# Altium integrated library WE-PFC PFC Choke.IntLib: 21 symbols
Pins are listed as number, name and electrical type; pins without a type are passive.

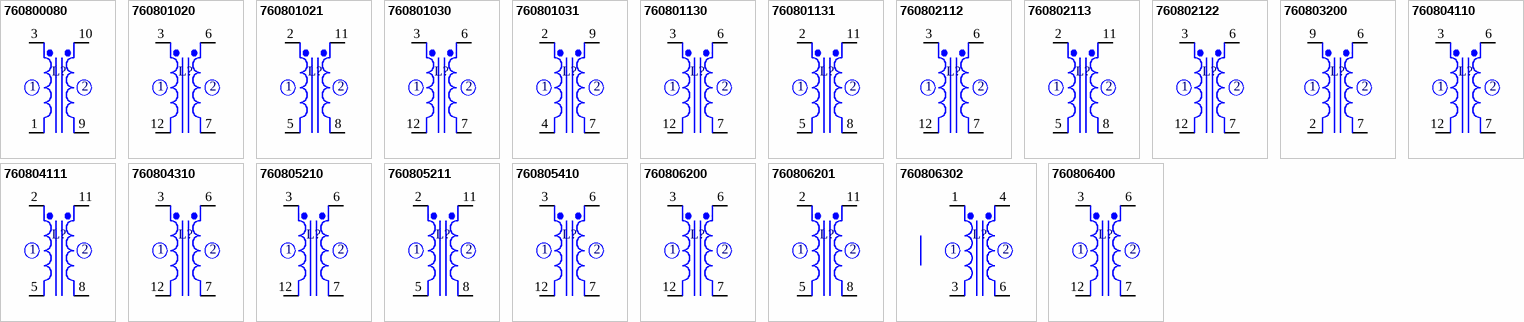
[diagram p0: symbols 760800080 to 760806400]

## 760800080
designator L?
THT Power Inductor WE-PFC , L=1800 µH; PartNumber: 760800080; Inductance: 1800 µH; PackageReference: EE20/10/6; ComponentLink1Description: Manufacturer URL; ComponentLink1URL: http://www.we-online.com; ComponentLink2Description: Datasheet; ComponentLink2URL: http://www.we-online.de/katalog/media/pdf/760800080.pdf
footprint EE20/10/6 (TH, 14-Leads, Body 25.0x22.20mm (max), Pitch 2.49mm)
pins: 1 Pri-, 3 Pri+, 9 Sec-, 10 Sec+
text: 2

## 760801020
designator L?
THT Power Inductor WE-PFC , L=500 µH; PartNumber: 760801020; Inductance: 500 µH; PackageReference: RM10; ComponentLink1Description: Manufacturer URL; ComponentLink1URL: http://www.we-online.com; ComponentLink2Description: Datasheet; ComponentLink2URL: http://www.we-online.de/katalog/media/pdf/760802112.pdf
footprint RM10 (THT-12pin- Body 31x29mm ,3.59mm pitch)
pins: 3 Pri+, 6 Sec+, 7 Sec-, 12 Pri-
text: 1; 2

## 760801021
designator L?
THT Power Inductor WE-PFC , L=500 µH; PartNumber: 760801021; Inductance: 500 µH; PackageReference: EFD30; ComponentLink1Description: Manufacturer URL; ComponentLink1URL: http://www.we-online.com; ComponentLink2Description: Datasheet; ComponentLink2URL: http://www.we-online.de/katalog/media/pdf/760801021.pdf
footprint EFD30 (THT-12pin- Body 31x30mm ,5mm pitch)
pins: 2 Pri+, 5 Pri-, 8 Sec-, 11 Sec+
text: 1

## 760801030
designator L?
THT Power Inductor WE-PFC , L=650 µH; PartNumber: 760801030; Inductance: 650 µH; PackageReference: RM10; ComponentLink1Description: Manufacturer URL; ComponentLink1URL: http://www.we-online.com; ComponentLink2Description: Datasheet; ComponentLink2URL: http://www.we-online.de/katalog/media/pdf/760801030.pdf
footprint RM10 (THT-12pin- Body 31x29mm ,3.59mm pitch)
pins: 3 Pri+, 6 Sec+, 7 Sec-, 12 Pri-
text: 1; 2

## 760801031
designator L?
THT Power Inductor WE-PFC , L=650 µH; PartNumber: 760801031; Inductance: 650 µH; PackageReference: EFD25; ComponentLink1Description: Manufacturer URL; ComponentLink1URL: http://www.we-online.com; ComponentLink2Description: Datasheet; ComponentLink2URL: http://www.we-online.de/katalog/media/pdf/760801031.pdf
footprint EFD25 (SMD, 12-Leads, Body 27.0x28.0mm (max), Pitch 3.76mm, IPC Medium Density)
pins: 2 Pri+, 4 Pri-, 7 Sec-, 9 Sec+
text: 1

## 760801130
designator L?
THT Power Inductor WE-PFC , L=750 µH; PartNumber: 760801130; Inductance: 750 µH; PackageReference: RM10; ComponentLink1Description: Manufacturer URL; ComponentLink1URL: http://www.we-online.com; ComponentLink2Description: Datasheet; ComponentLink2URL: http://www.we-online.de/katalog/media/pdf/760801130.pdf
footprint RM10 (THT-12pin- Body 31x29mm ,3.59mm pitch)
pins: 3 Pri+, 6 Sec+, 7 Sec-, 12 Pri-
text: 1; 2

## 760801131
designator L?
THT Power Inductor WE-PFC , L=750 µH; PartNumber: 760801131; Inductance: 750 µH; PackageReference: EFD30; ComponentLink1Description: Manufacturer URL; ComponentLink1URL: http://www.we-online.com; ComponentLink2Description: Datasheet; ComponentLink2URL: http://www.we-online.de/katalog/media/pdf/760801131.pdf
footprint EFD30 (THT-12pin- Body 31x30mm ,5mm pitch)
pins: 2 Pri+, 5 Pri-, 8 Sec-, 11 Sec+
text: 1

## 760802112
designator L?
THT Power Inductor WE-PFC , L=375 µH; PartNumber: 760802112; Inductance: 375 µH; PackageReference: RM10; ComponentLink1Description: Manufacturer URL; ComponentLink1URL: http://www.we-online.com; ComponentLink2Description: Datasheet; ComponentLink2URL: http://www.we-online.de/katalog/media/pdf/760802112.pdf
footprint RM10 (THT-12pin- Body 31x29mm ,3.59mm pitch)
pins: 3 Pri+, 6 Sec+, 7 Sec-, 12 Pri-
text: 1; 2

## 760802113
designator L?
THT Power Inductor WE-PFC , L=375 µH; PartNumber: 760802113; Inductance: 375 µH; PackageReference: EFD30; ComponentLink1Description: Manufacturer URL; ComponentLink1URL: http://www.we-online.com; ComponentLink2Description: Datasheet; ComponentLink2URL: http://www.we-online.de/katalog/media/pdf/760802113.pdf
footprint EFD30 (THT-12pin- Body 31x30mm ,5mm pitch)
pins: 2 Pri+, 5 Pri-, 8 Sec-, 11 Sec+
text: 1

## 760802122
designator L?
THT Power Inductor WE-PFC , L=450 µH; PartNumber: 760802122; Inductance: 450 µH; PackageReference: RM12; ComponentLink1Description: Manufacturer URL; ComponentLink1URL: http://www.we-online.com; ComponentLink2Description: Datasheet; ComponentLink2URL: http://www.we-online.de/katalog/media/pdf/760802122.pdf
footprint RM12 (THT-12pin- Body 41x40mm ,3.59mm pitch)
pins: 3 Pri+, 6 Sec+, 7 Sec-, 12 Pri-
text: 1; 2

## 760803200
designator L?
THT Power Inductor WE-PFC , L=150 µH; PartNumber: 760803200; Inductance: 150 µH; PackageReference: EER28; ComponentLink1Description: Manufacturer URL; ComponentLink1URL: http://www.we-online.com; ComponentLink2Description: Datasheet; ComponentLink2URL: http://www.we-online.de/katalog/media/pdf/760803200.pdf
footprint EER28 (THT-10pin- Body 33x32mm ,6mm pitch)
pins: 2 Pri-, 6 Sec+, 7 Sec-, 9 Pri+
text: 1

## 760804110
designator L?
THT Power Inductor WE-PFC , L=250 µH; PartNumber: 760804110; Inductance: 250 µH; PackageReference: RM10; ComponentLink1Description: Manufacturer URL; ComponentLink1URL: http://www.we-online.com; ComponentLink2Description: Datasheet; ComponentLink2URL: http://www.we-online.de/katalog/media/pdf/760804110.pdf
footprint RM10 (THT-12pin- Body 31x29mm ,3.59mm pitch)
pins: 3 Pri+, 6 Sec+, 7 Sec-, 12 Pri-
text: 1; 2

## 760804111
designator L?
THT Power Inductor WE-PFC , L=250 µH; PartNumber: 760804111; Inductance: 250 µH; PackageReference: EFD30; ComponentLink1Description: Manufacturer URL; ComponentLink1URL: http://www.we-online.com; ComponentLink2Description: Datasheet; ComponentLink2URL: http://www.we-online.de/katalog/media/pdf/760804111.pdf
footprint EFD30 (THT-12pin- Body 31x30mm ,5mm pitch)
pins: 2 Pri+, 5 Pri-, 8 Sec-, 11 Sec+
text: 1

## 760804310
designator L?
THT Power Inductor WE-PFC , L=300 µH; PartNumber: 760804310; Inductance: 300 µH; PackageReference: RM12; ComponentLink1Description: Manufacturer URL; ComponentLink1URL: http://www.we-online.com; ComponentLink2Description: Datasheet; ComponentLink2URL: http://www.we-online.de/katalog/media/pdf/760804310.pdf
footprint RM12 (THT-12pin- Body 41x40mm ,3.59mm pitch)
pins: 3 Pri+, 6 Sec+, 7 Sec-, 12 Pri-
text: 1; 2

## 760805210
designator L?
THT Power Inductor WE-PFC , L=200 µH; PartNumber: 760805210; Inductance: 200 µH; PackageReference: RM12; ComponentLink1Description: Manufacturer URL; ComponentLink1URL: http://www.we-online.com; ComponentLink2Description: Datasheet; ComponentLink2URL: http://www.we-online.de/katalog/media/pdf/760805210.pdf
footprint RM12 (THT-12pin- Body 41x40mm ,3.59mm pitch)
pins: 3 Pri+, 6 Sec+, 7 Sec-, 12 Pri-
text: 1; 2

## 760805211
designator L?
THT Power Inductor WE-PFC , L=200 µH; PartNumber: 760805211; Inductance: 200 µH; PackageReference: EFD30; ComponentLink1Description: Manufacturer URL; ComponentLink1URL: http://www.we-online.com; ComponentLink2Description: Datasheet; ComponentLink2URL: http://www.we-online.de/katalog/media/pdf/760805211.pdf
footprint EFD30 (THT-12pin- Body 31x30mm ,5mm pitch)
pins: 2 Pri+, 5 Pri-, 8 Sec-, 11 Sec+
text: 1

## 760805410
designator L?
THT Power Inductor WE-PFC , L=225 µH; PartNumber: 760805410; Inductance: 225 µH; PackageReference: RM14; ComponentLink1Description: Manufacturer URL; ComponentLink1URL: http://www.we-online.com; ComponentLink2Description: Datasheet; ComponentLink2URL: http://www.we-online.de/katalog/media/pdf/760805410.pdf
footprint RM14 (THT-12pin- Body 48x43mm ,7.18mm pitch)
pins: 3 Pri+, 6 Sec+, 7 Sec-, 12 Pri-
text: 1; 2

## 760806200
designator L?
THT Power Inductor WE-PFC , L=150 µH; PartNumber: 760806200; Inductance: 150 µH; PackageReference: RM12; ComponentLink1Description: Manufacturer URL; ComponentLink1URL: http://www.we-online.com; ComponentLink2Description: Datasheet; ComponentLink2URL: http://www.we-online.de/katalog/media/pdf/760806200.pdf
footprint RM12 (THT-12pin- Body 41x40mm ,3.59mm pitch)
pins: 3 Pri+, 6 Sec+, 7 Sec-, 12 Pri-
text: 1; 2

## 760806201
designator L?
THT Power Inductor WE-PFC , L=150 µH; PartNumber: 760806201; Inductance: 150 µH; PackageReference: EFD30; ComponentLink1Description: Manufacturer URL; ComponentLink1URL: http://www.we-online.com; ComponentLink2Description: Datasheet; ComponentLink2URL: http://www.we-online.de/katalog/media/pdf/760806201.pdf
footprint EFD30 (THT-12pin- Body 31x30mm ,5mm pitch)
pins: 2 Pri+, 5 Pri-, 8 Sec-, 11 Sec+
text: 1

## 760806302
designator L?
THT Power Inductor WE-PFC , L=300 µH; PartNumber: 760806302; Inductance: 300 µH; PackageReference: PQ38/11; ComponentLink1Description: Manufacturer URL; ComponentLink1URL: http://www.we-online.com; ComponentLink2Description: Datasheet; ComponentLink2URL: http://www.we-online.de/katalog/media/pdf/760806302.pdf
footprint PQ38/11 (THT-06pin- Body 38x47mm ,6mm pitch)
pins: 1 Pri+, 3 Pri-, 4 Sec+, 6 Sec-
text: 2

## 760806400
designator L?
THT Power Inductor WE-PFC , L=180 µH; PartNumber: 760806400; Inductance: 180 µH; PackageReference: RM14; ComponentLink1Description: Manufacturer URL; ComponentLink1URL: http://www.we-online.com; ComponentLink2Description: Datasheet; ComponentLink2URL: http://www.we-online.de/katalog/media/pdf/760806400.pdf
footprint RM14 (THT-12pin- Body 48x43mm ,7.18mm pitch)
pins: 3 Pri+, 6 Sec+, 7 Sec-, 12 Pri-
text: 1; 2